# Altium schematic symbol library CapacitorSMD0603.SchLib: 1 symbol
Pins are listed as number, name and electrical type; pins without a type are passive.

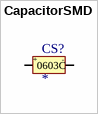
[diagram p0: symbol CapacitorSMD]

## CapacitorSMD
designator CS?
footprint CapacitorSMD
footprint CapacitorSMD
pins: 0 +, 1 -
text: 0603C